# Altium schematic symbol library 522070660.SchLib: 2 symbols
Pins are listed as number, name and electrical type; pins without a type are passive.

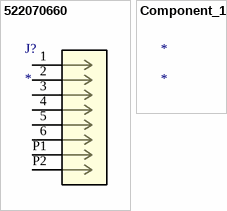
[diagram p0: symbols 522070660 to Component_1]

## 522070660
designator J?
No Description Available; Mfr_Name: Molex Connector Corporation; RefDes: RefDes; Type: Type
footprint CON_522070660_MOL
pins: 1, 2, 3, 4, 5, 6, P1, P2

## Component_1
designator *